# Altium footprint library 2020-07-15_05-47-19.PcbLib: 1 footprints
Each footprint in its own frame and in the unit in brackets; x right, y up, seen from the top. Pads: shape width x height; smd on the part's side, far side on the other; paste and mask are expansions set on the pad; w line width, h text height; cw(c..) or ccw(c..) is an arc to the next point about the centre after c.
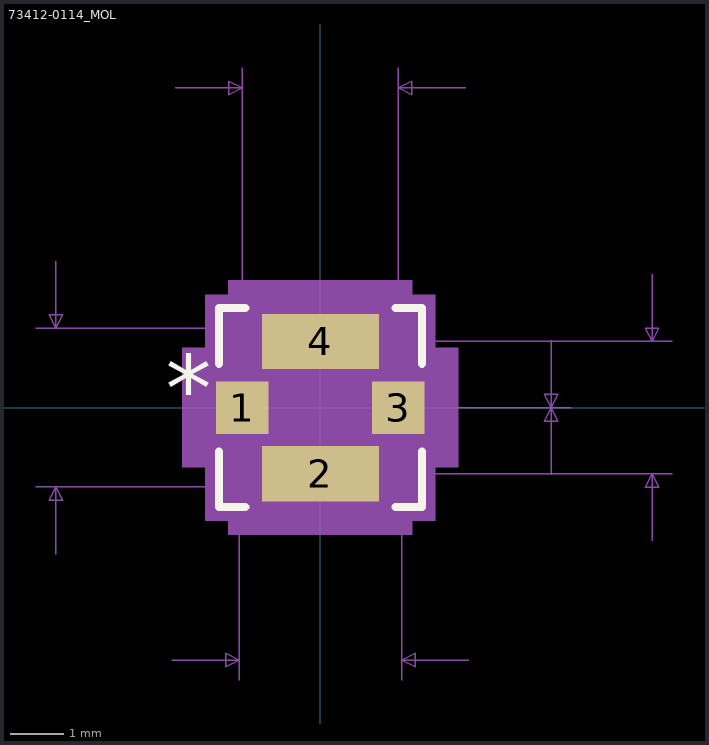
[diagram p0: the footprint, top view; thin cyan lines are the x and y axes]

## 73412-0114_MOL [mil]
pads (4):
  rect 39x39 smd paste-19.5 mask+0: 1(-58.07,0) 3(58.07,0)
  rect 87x41 smd paste+0 mask+0: 2(0,-49.21) 4(0,49.21)
Top Overlay:
  lines w6: -75.5,-32.6 -75.5,-74 -55.88,-74 ; -75.5,32.6 -75.5,74 -55.88,74 ; 55.88,-74 75.5,-74 75.5,-32.6 ; 55.88,74 75.5,74 75.5,32.6
  text "*" at -115.07,-10 h50
Mechanical 5:
  region: -85.5,44.5 -102.57,44.5 -102.57,-44.5 -85.5,-44.5 -85.5,-84 -68.5,-84 -68.5,-94.71 68.5,-94.71 68.5,-84 85.5,-84 85.5,-44.5 102.57,-44.5 102.57,44.5 85.5,44.5 85.5,84 68.5,84 68.5,94.71 -68.5,94.71 -68.5,84 -85.5,84
Mechanical 7:
  lines w1: -211.67,-59 60.5,-59 ; -211.67,59 60.5,59 60.5,-202.81 ; -196.67,-109 -196.67,-59 ; -196.67,109 -196.67,59 ; -110.5,-187.81 -60.5,-187.81 ; -108.07,237.81 -58.07,237.81 ; -60.5,-202.81 -60.5,59 ; -58.07,0 -58.07,252.81 ; 0,-49.21 261.67,-49.21 ; 0,49.21 261.67,49.21 ; 58.07,252.81 58.07,0 ; 108.07,237.81 58.07,237.81 ; 110.5,-187.81 60.5,-187.81 ; 171.67,-50 171.67,0 ; 171.67,50 171.67,0 ; 246.67,-99.21 246.67,-49.21 ; 246.67,99.21 246.67,49.21 ; -196.67,-59 -201.67,-69 -191.67,-69 -196.67,-59 ; -196.67,59 -201.67,69 -191.67,69 -196.67,59 ; -60.5,-187.81 -70.5,-182.81 -70.5,-192.81 -60.5,-187.81 ; -58.07,237.81 -68.07,242.81 -68.07,232.81 -58.07,237.81 ; 58.07,0 186.67,0 58.07,0 ; 58.07,237.81 68.07,242.81 68.07,232.81 58.07,237.81 ; 60.5,-187.81 70.5,-182.81 70.5,-192.81 60.5,-187.81 ; 171.67,0 166.67,10 176.67,10 171.67,0 ; 171.67,0 166.67,-10 176.67,-10 171.67,0 ; 246.67,-49.21 241.67,-59.21 251.67,-59.21 246.67,-49.21 ; 246.67,49.21 241.67,59.21 251.67,59.21 246.67,49.21
  text "Default Padstyle: RX39Y39D0TSM2" at -387.5,-312.81 h50
  text "Alt 1 Padstyle: RX87Y41D0T" at -325,-492.81 h50
  text "Alt 2 Padstyle: OX90Y60D30P" at -337.5,-552.81 h50
  text "0in/0mm" at 191.67,-12.5 h25
  text "0.116in/2.95mm" at -87.5,257.81 h25
  text "0.098in/2.5mm" at 266.67,-12.5 h25
  text "0.118in/2.997mm" at -404.17,-12.5 h25
  text "0.121in/3.073mm" at -93.75,-232.81 h25
Mechanical 13:
  lines w1: -60.5,9 -10.5,59 ; -60.5,-59 60.5,-59 60.5,59 -60.5,59 -60.5,-59
  text "*" at -41.07,-25 h50
Mechanical 15:
  region: -70.5,29.5 -87.57,29.5 -87.57,-29.5 -70.5,-29.5 -70.5,-69 -53.5,-69 -53.5,-79.71 53.5,-79.71 53.5,-69 70.5,-69 70.5,-29.5 87.57,-29.5 87.57,29.5 70.5,29.5 70.5,69 53.5,69 53.5,79.71 -53.5,79.71 -53.5,69 -70.5,69
  lines w6: -87.57,-29.5 -87.57,29.5 -70.5,29.5 -70.5,69 -53.5,69 -53.5,79.71 53.5,79.71 53.5,69 70.5,69 70.5,29.5 87.57,29.5 87.57,-29.5 70.5,-29.5 70.5,-69 53.5,-69 53.5,-79.71 -53.5,-79.71 -53.5,-69 -70.5,-69 -70.5,-29.5 -87.57,-29.5
3D body: height 10, standoff 0, extent 0,0 10,10